# Altium integrated library XT90PW-F.IntLib: 1 symbol
Pins are listed as number, name and electrical type; pins without a type are passive.

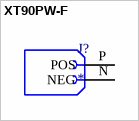
[diagram p0: symbol XT90PW-F]

## XT90PW-F
designator J?
Socket, DC supply, XT90, female, PIN:2, on PCBs, THT; MF: AMASS; MP: XT90PW-F; SnapEDA_Link: https://www.snapeda.com/parts/XT90PW-F/AMASS/view-part/?ref=snap; Availability: Not in stock; Price: None; Package: Package; Check_prices: https://www.snapeda.com/parts/XT90PW-F/AMASS/view-part/?ref=eda; Value: *
footprint AMASS_XT90PW-F
pins: N NEG, P POS